# Altium schematic symbol library DSO.SchLib: 175 symbols (part 2 of 2)
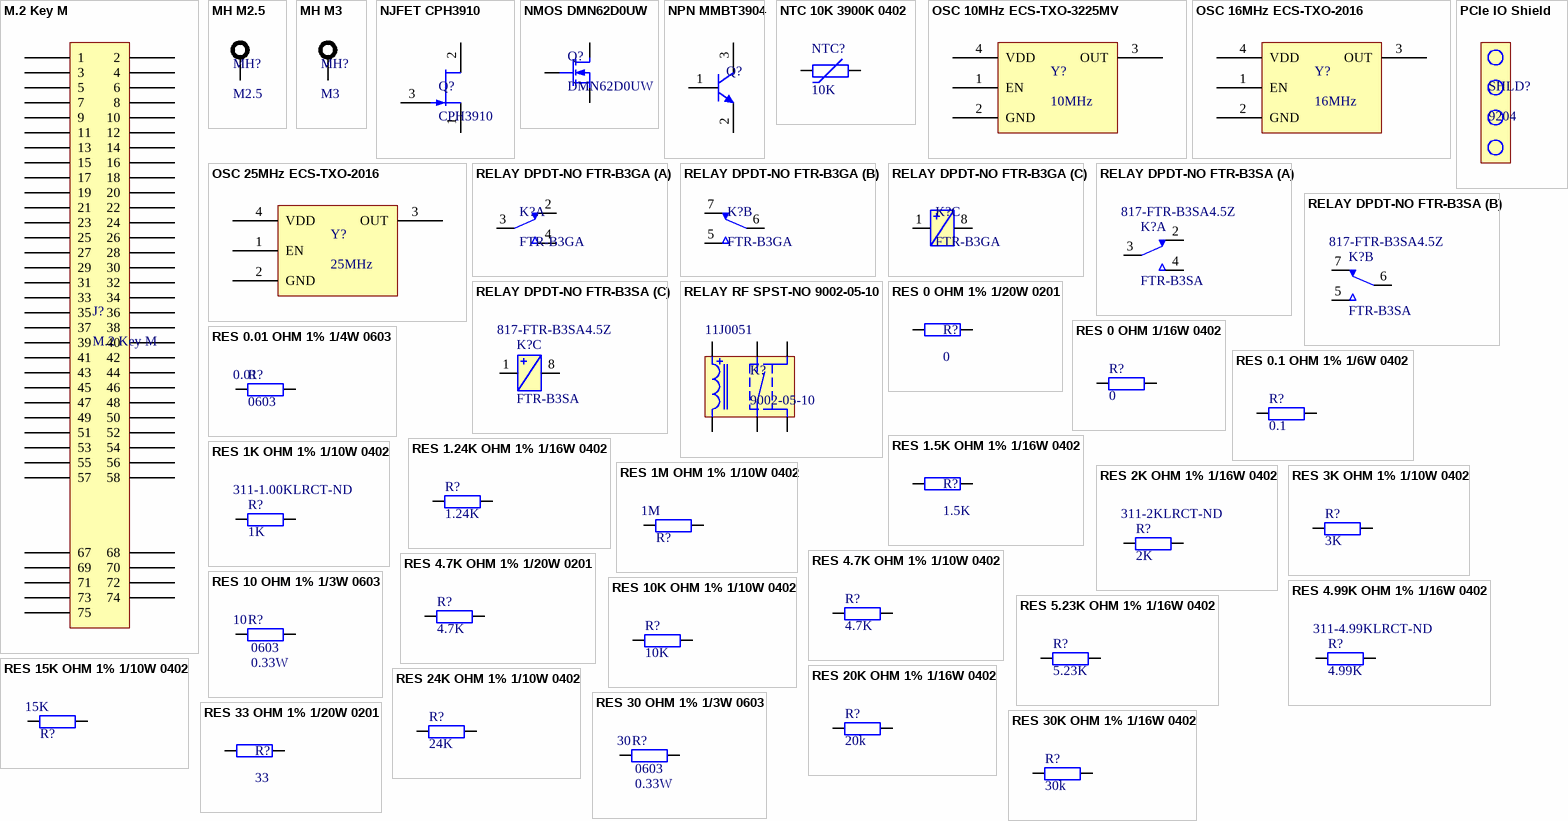
[diagram p7: symbols M.2 Key M to RES 33 OHM 1% 1/20W 0201]

## OSC 16MHz ECS-TXO-2016
designator Y?, comment 16MHz
Supplier 1: Digi-Key; Supplier Part Number 1: XC3161CT-ND
footprint ECS_TXO-2016
pins: 1 EN, 2 GND (power), 3 OUT, 4 VDD (power)

## OSC 25MHz ECS-TXO-2016
designator Y?, comment 25MHz
Supplier 1: Digi-Key; Supplier Part Number 1: XC3163CT-ND
footprint ECS_TXO-2016
pins: 1 EN, 2 GND (power), 3 OUT, 4 VDD (power)

## PCIe IO Shield
designator SHLD?, comment 9204  (mechanical)
Supplier 1: Mouser; Supplier Part Number 1: 534-9204

## RELAY DPDT-NO FTR-B3GA
designator K?, comment FTR-B3GA
footprint FUJ_FTR-B3GA
part A pins: 2, 3, 4
part B pins: 5, 6, 7
part C pins: 1, 8

## RELAY DPDT-NO FTR-B3SA
designator K?, comment FTR-B3SA  Supplier Part Number 1: 817-FTR-B3SA4.5Z
Supplier 1: Mouser
footprint FUJ_FTR-B3SA
part A pins: 2, 3, 4
part B pins: 5, 6, 7
part C pins: 1, 8

## RELAY RF SPST-NO 9002-05-10
designator K?, comment 9002-05-10  Supplier Part Number 1: 11J0051
Supplier 1: Newark
footprint COTO_9002-05-10
pins: 1, 2, 3, 4, 5, 6

## RES 0 OHM 1% 1/20W 0201
designator R?, comment 0
Tolerance: 1%; Power Rating: 0.05W; Package: 0201; Value: 0; Supplier 1: Digi-Key; Supplier Part Number 1: RMCF0201ZT0R00CT-ND
footprint GEN_R_0201 (Chip Resistor, 2-Leads, Body 0.60x0.30mm, IPC Medium Density)
pins: 1, 2

## RES 0 OHM 1/16W 0402
designator R?, comment 0
Power Rating: 0.0625W; Package: 0402; Supplier 1: Digi-Key; Supplier Part Number 1: 311-0.0JRCT-ND; Value: 0
footprint GEN_R_0402 (Chip Resistor, 2-Leads, Body 1.00x0.50mm, IPC Medium Density)
pins: 1, 2

## RES 0.01 OHM 1% 1/4W 0603
designator R?, comment 0.01  Package: 0603
Tolerance: 1%; Power Rating: 0.25W; Supplier 1: Digi-Key; Supplier Part Number 1: 408-1404-1-ND; Value: 0.01
footprint GEN_R_0603
pins: 1, 2

## RES 0.1 OHM 1% 1/6W 0402
designator R?, comment 0.1
Tolerance: 1%; Power Rating: 0.16W; Package: 0402; Supplier 1: Digi-Key; Supplier Part Number 1: P.10AKCT-ND; Value: 0.1
footprint GEN_R_0402 (Chip Resistor, 2-Leads, Body 1.00x0.50mm, IPC Medium Density)
pins: 1, 2

## RES 1.5K OHM 1% 1/16W 0402
designator R?, comment 1.5K
Tolerance: 1%; Power Rating: 0.0625W; Package: 0402; Value: 1.5K; Supplier 1: Digi-Key; Supplier Part Number 1: 311-1.50KLRCT-ND
footprint GEN_R_0402 (Chip Resistor, 2-Leads, Body 1.00x0.50mm, IPC Medium Density)
pins: 1, 2

## RES 1.24K OHM 1% 1/16W 0402
designator R?, comment 1.24K
Tolerance: 1%; Power Rating: 0.0625W; Package: 0402; Value: 1.24K; Supplier 1: Digi-Key; Supplier Part Number 1: 311-1.24KLRCT-ND
footprint GEN_R_0402 (Chip Resistor, 2-Leads, Body 1.00x0.50mm, IPC Medium Density)
pins: 1, 2

## RES 1K OHM 1% 1/10W 0402
designator R?, comment 1K  Supplier Part Number 1: 311-1.00KLRCT-ND
Tolerance: 1%; Power Rating: 0.1W; Package: 0402; Value: 1K; Supplier 1: Digi-Key
footprint GEN_R_0402 (Chip Resistor, 2-Leads, Body 1.00x0.50mm, IPC Medium Density)
pins: 1, 2

## RES 1M OHM 1% 1/10W 0402
designator R?, comment 1M
Tolerance: 1%; Power Rating: 0.1W; Package: 0402; Supplier 1: Digi-Key; Supplier Part Number 1: P1.00MLCT-ND; Value: 1M
footprint GEN_R_0402 (Chip Resistor, 2-Leads, Body 1.00x0.50mm, IPC Medium Density)
pins: 1, 2

## RES 2K OHM 1% 1/16W 0402
designator R?, comment 2K  Supplier Part Number 1: 311-2KLRCT-ND
Tolerance: 1%; Power Rating: 0.0625W; Package: 0402; Value: 2K; Supplier 1: Digi-Key
footprint GEN_R_0402 (Chip Resistor, 2-Leads, Body 1.00x0.50mm, IPC Medium Density)
pins: 1, 2

## RES 3K OHM 1% 1/10W 0402
designator R?, comment 3K
Tolerance: 1%; Power Rating: 0.1W; Package: 0402; Supplier 1: Digi-Key; Supplier Part Number 1: P3.00KLCT-ND; Value: 3K
footprint GEN_R_0402 (Chip Resistor, 2-Leads, Body 1.00x0.50mm, IPC Medium Density)
pins: 1, 2

## RES 4.7K OHM 1% 1/10W 0402
designator R?, comment 4.7K
Tolerance: 1%; Power Rating: 0.1W; Package: 0402; Supplier 1: Digi-Key; Supplier Part Number 1: P4.70KLCT-ND; Value: 4.7K
footprint GEN_R_0402 (Chip Resistor, 2-Leads, Body 1.00x0.50mm, IPC Medium Density)
pins: 1, 2

## RES 4.7K OHM 1% 1/20W 0201
designator R?, comment 4.7K
Tolerance: 1%; Power Rating: 0.05W; Package: 0201; Value: 4.7K; Supplier 1: Digi-Key; Supplier Part Number 1: 311-4.70KMTR-ND
footprint GEN_R_0201 (Chip Resistor, 2-Leads, Body 0.60x0.30mm, IPC Medium Density)
pins: 1, 2

## RES 4.99K OHM 1% 1/16W 0402
designator R?, comment 4.99K  Supplier Part Number 1: 311-4.99KLRCT-ND
Tolerance: 1%; Power Rating: 0.0625W; Package: 0402; Value: 4.99K; Supplier 1: Digi-Key
footprint GEN_R_0402 (Chip Resistor, 2-Leads, Body 1.00x0.50mm, IPC Medium Density)
pins: 1, 2

## RES 5.23K OHM 1% 1/16W 0402
designator R?, comment 5.23K
Tolerance: 1%; Power Rating: 0.0625W; Package: 0402; Value: 5.23K; Supplier 1: Digi-Key; Supplier Part Number 1: YAG3195CT-ND
footprint GEN_R_0402 (Chip Resistor, 2-Leads, Body 1.00x0.50mm, IPC Medium Density)
pins: 1, 2

## RES 10 OHM 1% 1/3W 0603
designator R?, comment 10  Power Rating: 0.33W  Package: 0603
Tolerance: 1%; Value: 10; Supplier 1: Digi-Key; Supplier Part Number 1: 2019-SG73P1JTTD10R0FCT-ND
footprint GEN_R_0603
pins: 1, 2

## RES 10K OHM 1% 1/10W 0402
designator R?, comment 10K
Tolerance: 1%; Power Rating: 0.1W; Package: 0402; Supplier 1: Digi-Key; Supplier Part Number 1: P10.0KLCT-ND; Value: 10K
footprint GEN_R_0402 (Chip Resistor, 2-Leads, Body 1.00x0.50mm, IPC Medium Density)
pins: 1, 2

## RES 15K OHM 1% 1/10W 0402
designator R?, comment 15K
Tolerance: 1%; Power Rating: 0.1W; Package: 0402; Supplier 1: Digi-Key; Supplier Part Number 1: P15.0KLCT-ND; Value: 15K
footprint GEN_R_0402 (Chip Resistor, 2-Leads, Body 1.00x0.50mm, IPC Medium Density)
pins: 1, 2

## RES 20K OHM 1% 1/16W 0402
designator R?, comment 20k
Tolerance: 1%; Power Rating: 0.0625W; Package: 0402; Value: 20k; Supplier 1: Digi-Key; Supplier Part Number 1: 311-20.0KLRCT-ND
footprint GEN_R_0402 (Chip Resistor, 2-Leads, Body 1.00x0.50mm, IPC Medium Density)
pins: 1, 2

## RES 24K OHM 1% 1/10W 0402
designator R?, comment 24K
Tolerance: 1%; Power Rating: 0.1W; Package: 0402; Supplier 1: Digi-Key; Supplier Part Number 1: P24.0KLCT-ND; Value: 24K
footprint GEN_R_0402 (Chip Resistor, 2-Leads, Body 1.00x0.50mm, IPC Medium Density)
pins: 1, 2

## RES 30 OHM 1% 1/3W 0603
designator R?, comment 30  Power Rating: 0.33W  Package: 0603
Tolerance: 1%; Value: 30; Supplier 1: Digi-Key; Supplier Part Number 1: 2019-SG73P1JTTD30R0FCT-ND
footprint GEN_R_0603
pins: 1, 2

## RES 30K OHM 1% 1/16W 0402
designator R?, comment 30k
Tolerance: 1%; Power Rating: 0.0625W; Package: 0402; Value: 30k; Supplier 1: Digi-Key; Supplier Part Number 1: 311-30.0KLRCT-ND
footprint GEN_R_0402 (Chip Resistor, 2-Leads, Body 1.00x0.50mm, IPC Medium Density)
pins: 1, 2

## RES 33 OHM 1% 1/20W 0201
designator R?, comment 33
Tolerance: 1%; Power Rating: 0.05W; Package: 0201; Value: 33; Supplier 1: Digi-Key; Supplier Part Number 1: RMCF0201FT33R0CT-ND
footprint GEN_R_0201 (Chip Resistor, 2-Leads, Body 0.60x0.30mm, IPC Medium Density)
pins: 1, 2

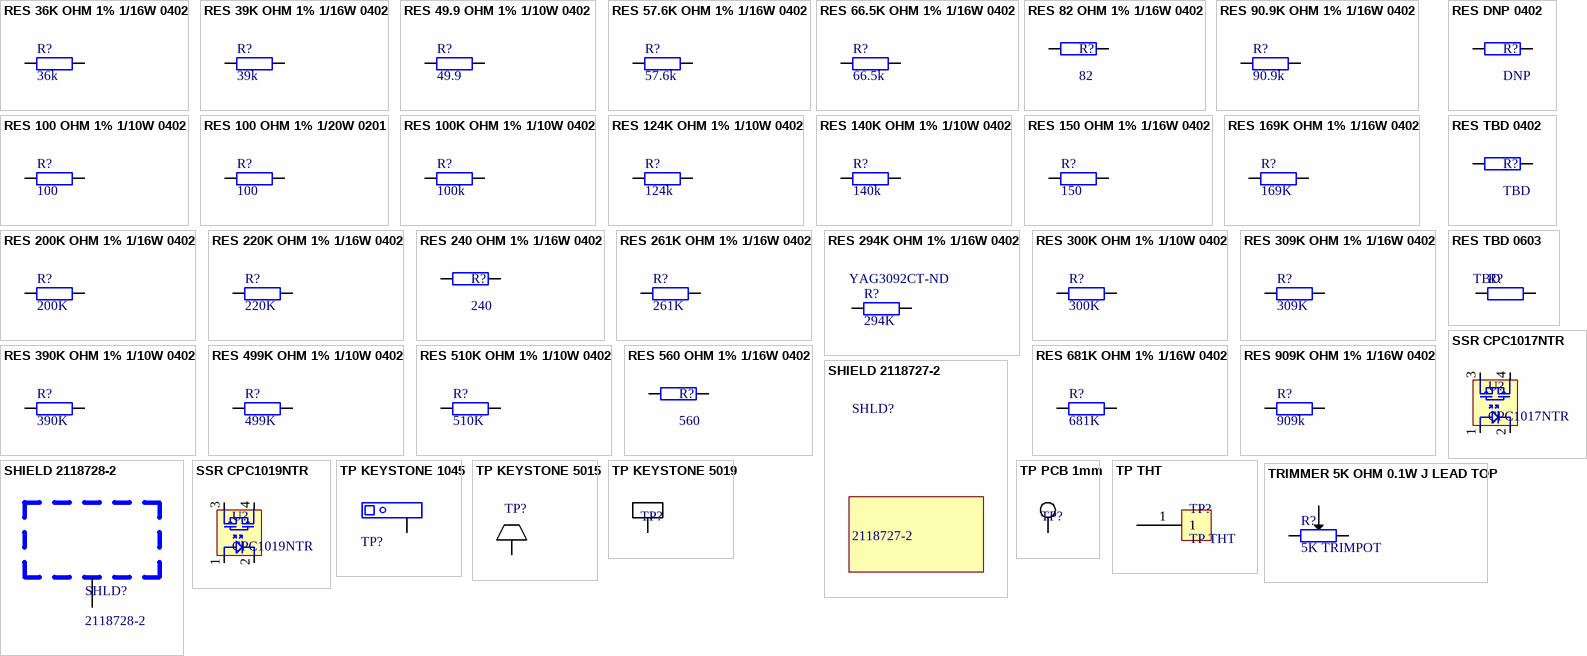
[diagram p5: symbols RES 36K OHM 1% 1/16W 0402 to TRIMMER 5K OHM 0.1W J LEAD TOP]

## RES 36K OHM 1% 1/16W 0402
designator R?, comment 36k
Tolerance: 1%; Power Rating: 0.0625W; Package: 0402; Value: 36k; Supplier 1: Digi-Key; Supplier Part Number 1: 311-36.0KLRCT-ND
footprint GEN_R_0402 (Chip Resistor, 2-Leads, Body 1.00x0.50mm, IPC Medium Density)
pins: 1, 2

## RES 39K OHM 1% 1/16W 0402
designator R?, comment 39k
Tolerance: 1%; Power Rating: 0.0625W; Package: 0402; Value: 39k; Supplier 1: Digi-Key; Supplier Part Number 1: 311-39.0KLRCT-ND
footprint GEN_R_0402 (Chip Resistor, 2-Leads, Body 1.00x0.50mm, IPC Medium Density)
pins: 1, 2

## RES 49.9 OHM 1% 1/10W 0402
designator R?, comment 49.9
Tolerance: 1%; Power Rating: 0.1W; Package: 0402; Value: 49.9; Supplier 1: Digi-Key; Supplier Part Number 1: 311-49.9LRCT-ND
footprint GEN_R_0402 (Chip Resistor, 2-Leads, Body 1.00x0.50mm, IPC Medium Density)
pins: 1, 2

## RES 57.6K OHM 1% 1/16W 0402
designator R?, comment 57.6k
Tolerance: 1%; Power Rating: 0.0625W; Package: 0402; Value: 57.6k; Supplier 1: Digi-Key; Supplier Part Number 1: YAG3190CT-ND
footprint GEN_R_0402 (Chip Resistor, 2-Leads, Body 1.00x0.50mm, IPC Medium Density)
pins: 1, 2

## RES 66.5K OHM 1% 1/16W 0402
designator R?, comment 66.5k
Tolerance: 1%; Power Rating: 0.0625W; Package: 0402; Value: 66.5k; Supplier 1: Digi-Key; Supplier Part Number 1: YAG3209CT-ND
footprint GEN_R_0402 (Chip Resistor, 2-Leads, Body 1.00x0.50mm, IPC Medium Density)
pins: 1, 2

## RES 82 OHM 1% 1/16W 0402
designator R?, comment 82
Tolerance: 1%; Power Rating: 0.0625W; Package: 0402; Supplier 1: Digi-Key; Supplier Part Number 1: 311-82LRCT-ND; Value: 82
footprint GEN_R_0402 (Chip Resistor, 2-Leads, Body 1.00x0.50mm, IPC Medium Density)
pins: 1, 2

## RES 90.9K OHM 1% 1/16W 0402
designator R?, comment 90.9k
Tolerance: 1%; Power Rating: 0.0625W; Package: 0402; Value: 90.9k; Supplier 1: Digi-Key; Supplier Part Number 1: 311-90.9KLRCT-ND
footprint GEN_R_0402 (Chip Resistor, 2-Leads, Body 1.00x0.50mm, IPC Medium Density)
pins: 1, 2

## RES 100 OHM 1% 1/10W 0402
designator R?, comment 100
Tolerance: 1%; Power Rating: 0.1W; Package: 0402; Value: 100; Supplier 1: Digi-Key; Supplier Part Number 1: 2019-RK73H1ETTP1000FCT-ND
footprint GEN_R_0402 (Chip Resistor, 2-Leads, Body 1.00x0.50mm, IPC Medium Density)
pins: 1, 2

## RES 100 OHM 1% 1/20W 0201
designator R?, comment 100
Tolerance: 1%; Power Rating: 0.05W; Package: 0201; Value: 100; Supplier 1: Digi-Key; Supplier Part Number 1: 311-100MCT-ND
footprint GEN_R_0201 (Chip Resistor, 2-Leads, Body 0.60x0.30mm, IPC Medium Density)
pins: 1, 2

## RES 100K OHM 1% 1/10W 0402
designator R?, comment 100k
Tolerance: 1%; Power Rating: 0.1W; Package: 0402; Value: 100k; Supplier 1: Digi-Key; Supplier Part Number 1: 311-100KLRCT-ND
footprint GEN_R_0402 (Chip Resistor, 2-Leads, Body 1.00x0.50mm, IPC Medium Density)
pins: 1, 2

## RES 124K OHM 1% 1/10W 0402
designator R?, comment 124k
Tolerance: 1%; Power Rating: 0.1W; Package: 0402; Value: 124k; Supplier 1: Digi-Key; Supplier Part Number 1: 311-124KLRCT-ND
footprint GEN_R_0402 (Chip Resistor, 2-Leads, Body 1.00x0.50mm, IPC Medium Density)
pins: 1, 2

## RES 140K OHM 1% 1/10W 0402
designator R?, comment 140k
Tolerance: 1%; Power Rating: 0.1W; Package: 0402; Value: 140k; Supplier 1: Digi-Key; Supplier Part Number 1: YAG2978CT-ND
footprint GEN_R_0402 (Chip Resistor, 2-Leads, Body 1.00x0.50mm, IPC Medium Density)
pins: 1, 2

## RES 150 OHM 1% 1/16W 0402
designator R?, comment 150
Tolerance: 1%; Power Rating: 0.0625W; Package: 0402; Value: 150; Supplier 1: Digi-Key; Supplier Part Number 1: 311-150LRCT-ND
footprint GEN_R_0402 (Chip Resistor, 2-Leads, Body 1.00x0.50mm, IPC Medium Density)
pins: 1, 2

## RES 169K OHM 1% 1/16W 0402
designator R?, comment 169K
Tolerance: 1%; Power Rating: 0.0625W; Package: 0402; Value: 169K; Supplier 1: Digi-Key; Supplier Part Number 1: YAG3000CT-ND
footprint GEN_R_0402 (Chip Resistor, 2-Leads, Body 1.00x0.50mm, IPC Medium Density)
pins: 1, 2

## RES 200K OHM 1% 1/16W 0402
designator R?, comment 200K
Tolerance: 1%; Power Rating: 0.0625W; Package: 0402; Value: 200K; Supplier 1: Digi-Key; Supplier Part Number 1: 311-200KLRCT-ND
footprint GEN_R_0402 (Chip Resistor, 2-Leads, Body 1.00x0.50mm, IPC Medium Density)
pins: 1, 2

## RES 220K OHM 1% 1/16W 0402
designator R?, comment 220K
Tolerance: 1%; Power Rating: 0.0625W; Package: 0402; Value: 220K; Supplier 1: Digi-Key; Supplier Part Number 1: 311-220KLRCT-ND
footprint GEN_R_0402 (Chip Resistor, 2-Leads, Body 1.00x0.50mm, IPC Medium Density)
pins: 1, 2

## RES 240 OHM 1% 1/16W 0402
designator R?, comment 240
Tolerance: 1%; Power Rating: 0.0625W; Package: 0402; Value: 240; Supplier 1: Digi-Key; Supplier Part Number 1: 311-240LRTR-ND
footprint GEN_R_0402 (Chip Resistor, 2-Leads, Body 1.00x0.50mm, IPC Medium Density)
pins: 1, 2

## RES 261K OHM 1% 1/16W 0402
designator R?, comment 261K
Tolerance: 1%; Power Rating: 0.0625W; Package: 0402; Value: 261K; Supplier 1: Digi-Key; Supplier Part Number 1: 311-261KLRCT-ND
footprint GEN_R_0402 (Chip Resistor, 2-Leads, Body 1.00x0.50mm, IPC Medium Density)
pins: 1, 2

## RES 294K OHM 1% 1/16W 0402
designator R?, comment 294K  Supplier Part Number 1: YAG3092CT-ND
Tolerance: 1%; Power Rating: 0.0625W; Package: 0402; Value: 294K; Supplier 1: Digi-Key
footprint GEN_R_0402 (Chip Resistor, 2-Leads, Body 1.00x0.50mm, IPC Medium Density)
pins: 1, 2

## RES 300K OHM 1% 1/10W 0402
designator R?, comment 300K
Tolerance: 1%; Power Rating: 0.1W; Package: 0402; Supplier 1: Digi-Key; Supplier Part Number 1: P300KLCT-ND; Value: 300K
footprint GEN_R_0402 (Chip Resistor, 2-Leads, Body 1.00x0.50mm, IPC Medium Density)
pins: 1, 2

## RES 309K OHM 1% 1/16W 0402
designator R?, comment 309K
Tolerance: 1%; Power Rating: 0.0625W; Package: 0402; Value: 309K; Supplier 1: Digi-Key; Supplier Part Number 1: YAG3108CT-ND
footprint GEN_R_0402 (Chip Resistor, 2-Leads, Body 1.00x0.50mm, IPC Medium Density)
pins: 1, 2

## RES 390K OHM 1% 1/10W 0402
designator R?, comment 390K
Tolerance: 1%; Power Rating: 0.1W; Package: 0402; Supplier 1: Digi-Key; Supplier Part Number 1: P390KLCT-ND; Value: 390K
footprint GEN_R_0402 (Chip Resistor, 2-Leads, Body 1.00x0.50mm, IPC Medium Density)
pins: 1, 2

## RES 499K OHM 1% 1/10W 0402
designator R?, comment 499K
Tolerance: 1%; Power Rating: 0.1W; Package: 0402; Supplier 1: Digi-Key; Supplier Part Number 1: P499KLCT-ND; Value: 499K
footprint GEN_R_0402 (Chip Resistor, 2-Leads, Body 1.00x0.50mm, IPC Medium Density)
pins: 1, 2

## RES 510K OHM 1% 1/10W 0402
designator R?, comment 510K
Tolerance: 1%; Power Rating: 0.1W; Package: 0402; Supplier 1: Digi-Key; Supplier Part Number 1: P510KLCT-ND; Value: 510K
footprint GEN_R_0402 (Chip Resistor, 2-Leads, Body 1.00x0.50mm, IPC Medium Density)
pins: 1, 2

## RES 560 OHM 1% 1/16W 0402
designator R?, comment 560
Tolerance: 1%; Power Rating: 0.0625W; Package: 0402; Value: 560; Supplier 1: Digi-Key; Supplier Part Number 1: 311-560LRCT-ND
footprint GEN_R_0402 (Chip Resistor, 2-Leads, Body 1.00x0.50mm, IPC Medium Density)
pins: 1, 2

## RES 681K OHM 1% 1/16W 0402
designator R?, comment 681K
Tolerance: 1%; Power Rating: 0.0625W; Package: 0402; Value: 681K; Supplier 1: Digi-Key; Supplier Part Number 1: YAG3212CT-ND
footprint GEN_R_0402 (Chip Resistor, 2-Leads, Body 1.00x0.50mm, IPC Medium Density)
pins: 1, 2

## RES 909K OHM 1% 1/16W 0402
designator R?, comment 909k
Tolerance: 1%; Power Rating: 0.0625W; Package: 0402; Supplier 1: Digi-Key; Supplier Part Number 1: YAG2377CT-ND; Value: 909k
footprint GEN_R_0402 (Chip Resistor, 2-Leads, Body 1.00x0.50mm, IPC Medium Density)
pins: 1, 2

## RES DNP 0402
designator R?, comment DNP  (no BOM)
Tolerance: 1%; Power Rating: 0.0625W; Package: 0402; Value: DNP
footprint GEN_R_0402 (Chip Resistor, 2-Leads, Body 1.00x0.50mm, IPC Medium Density)
pins: 1, 2

## RES TBD 0402
designator R?, comment TBD  (no BOM)
Tolerance: 1%; Power Rating: 0.0625W; Package: 0402; Value: TBD
footprint GEN_R_0402 (Chip Resistor, 2-Leads, Body 1.00x0.50mm, IPC Medium Density)
pins: 1, 2

## RES TBD 0603
designator R?, comment TBD
Value: TBD; Package: 0603
footprint GEN_R_0603
pins: 1, 2

## SHIELD 2118727-2
designator SHLD?, comment 2118727-2  (mechanical)
Supplier 1: Digi-Key; Supplier Part Number 1: A126132-ND

## SHIELD 2118728-2
designator SHLD?, comment 2118728-2
Supplier 1: Digi-Key; Supplier Part Number 1: A126158CT-ND
footprint TE_2118728-2
pins: 1

## SSR CPC1017NTR
designator U?, comment CPC1017NTR
Supplier 1: Digi-Key; Supplier Part Number 1: CLA233CT-ND
footprint IXY_CPC1017
pins: 1, 2, 3, 4

## SSR CPC1019NTR
designator U?, comment CPC1019NTR
Supplier 1: Mouser; Supplier Part Number 1: 849-CPC1019NTR
footprint IXY_CPC1017
pins: 1, 2, 3, 4

## TP KEYSTONE 1045
designator TP?, comment 1045  (value not drawn)
Supplier 1: Digi-Key; Supplier Part Number 1: 36-1045-ND
footprint KEY_1045
pins: 1

## TP KEYSTONE 5015
designator TP?, comment 5015  (value not drawn)
Supplier 1: Digi-Key; Supplier Part Number 1: 36-5015CT-ND
footprint KEY_5015 (PC TEST POINT MICRO MINIATURE)
pins: 1

## TP KEYSTONE 5019
designator TP?, comment 5019  (value not drawn)
Supplier 1: Digi-Key; Supplier Part Number 1: 36-5019CT-ND
footprint KEY_5019 (PC TEST POINT MINIATURE)
pins: 1

## TP PCB 1mm
designator TP?, comment PCB  (value not drawn)  (no BOM)
footprint GEN_TP_PCB
pins: 1

## TP THT
designator TP?
footprint GEN_1_Pin_TH_TP
pins: 1

## TRIMMER 5K OHM 0.1W J LEAD TOP
designator R?, comment 5K TRIMPOT
Tolerance: 1%; Power Rating: 0.1W; Supplier 1: Digi-Key; Supplier Part Number 1: TC33X-502ECT-ND; Value: 5K
footprint BOU_3mm_POT
pins: 1, 2, 3

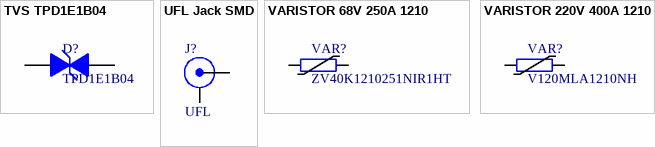
[diagram p6: symbols TVS TPD1E1B04 to VARISTOR 220V 400A 1210]

## TVS TPD1E1B04
designator D?, comment TPD1E1B04
Supplier 1: Digi-Key; Supplier Part Number 1: 296-47364-1-ND
footprint TI_X1SON_DPY0002A (Chip Resistor, 2-Leads, Body 1.00x0.50mm, IPC Medium Density)
pins: 1 K, 2 A

## UFL Jack SMD
designator J?, comment UFL
Supplier 1: Digi-Key; Supplier Part Number 1: A145155CT-ND
footprint TE_2334884-1
pins: 1 Signal, 2 SHIELD

## VARISTOR 68V 250A 1210
designator VAR?, comment ZV40K1210251NIR1HT
Supplier 1: Digi-Key; Supplier Part Number 1: 118-ZV40K1210251NIR1HTCT-ND
footprint GEN_VAR_1210 (Chip Varistor, 2-Leads, Body 3.20x2.54mm, IPC Medium Density)
pins: 1, 2

## VARISTOR 220V 400A 1210
designator VAR?, comment V120MLA1210NH
Supplier 1: Digi-Key; Supplier Part Number 1: F3831CT-ND
footprint GEN_VAR_1210 (Chip Varistor, 2-Leads, Body 3.20x2.54mm, IPC Medium Density)
pins: 1, 2